# EAGLE library part RFM70S (library X893)
http://www.terraelectronica.ru/pdf/HOPERF/RFM70.pdf
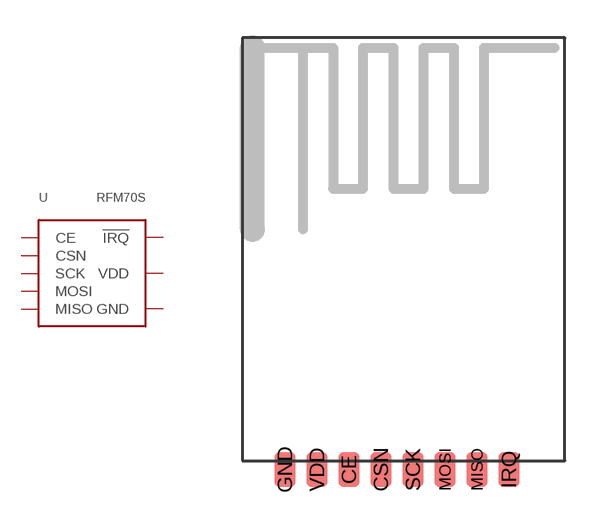
[diagram p121: symbol with the pads of RFM70S; footprint RFM70S]

Designator prefix U

## RFM70S  [RFM70S]
CE  CE  in
CSN  CSN  in
GND  GND  sup
IRQ  !IRQ  out
MISO  MISO  hiz
MOSI  MOSI  in
SCK  SCK  in
VDD  VDD  pwr

## Footprint RFM70S (pad centres in mm)
smd 0.85 x 1.4: CE -2.16,-2; CSN -0.89,-2; GND -4.7,-2; IRQ 4.19,-2; MISO 2.92,-2; MOSI 1.65,-2; SCK 0.38,-2; VDD -3.43,-2